# Altium schematic symbol library ABL-20.SCHLIB: 1 symbol
Pins are listed as number, name and electrical type; pins without a type are passive.

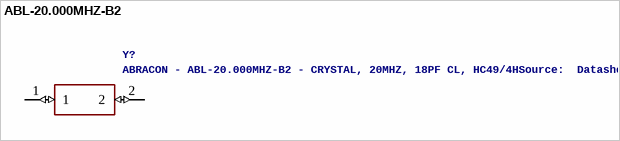
[diagram p0: symbol ABL-20.000MHZ-B2]

## ABL-20.000MHZ-B2
designator Y?, comment ABRACON - ABL-20.000MHZ-B2 - CRYSTAL, 20MHZ, 18PF CL, HC49/4HSource:  Datasheet
GateName_1: G$1; SymbolName_1: ABL-20.000MHZ-B2; LibraryName: ABL-20.000MHZ-B2; DeviceSetName: ABL-20.000MHZ-B2; Package: HC/49US_(AT49)PTH; Manufacturer_Name: ABRACON; Manufacturer_Part_Number: ABL-20.000MHZ-B2; RS_Part_Number: 1710202; RS_Price-Stock: http://uk.rs-online.com/web/p/products/1710202; Arrow_Part_Number: ABL-20.000MHZ-B2; Arrow_Price-Stock: https://www.arrow.com/en/products/abl-20.000mhz-b2/abracon; Description: ABRACON - ABL-20.000MHZ-B2 - CRYSTAL, 20MHZ, 18PF CL, HC49/4H; Height: mm
footprint HC/49US_(AT49)PTH
pins: 1 (io), 2 (io)